# Altium footprint library SOP.PcbLib: 6 footprints
Each footprint in its own frame and in the unit in brackets; x right, y up, seen from the top. Pads: shape width x height; smd on the part's side, far side on the other; paste and mask are expansions set on the pad; w line width, h text height; cw(c..) or ccw(c..) is an arc to the next point about the centre after c.
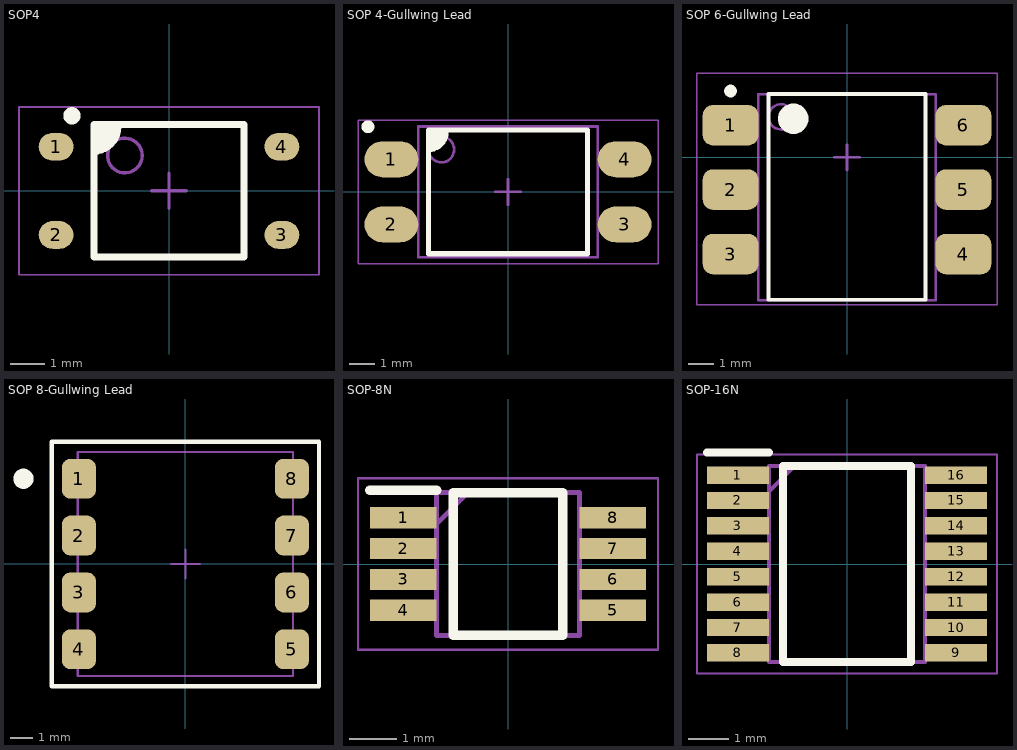
[diagram p0: the footprints below, top view; thin cyan lines are the x and y axes]

## SOP4 [mm] "SOP, 4-Leads, Body 3.85x4.4mm, Pitch 2.54mm, IPC Medium Density"
height 2.1
pads (4):
  oval 1x0.8 smd: 1(-3.25,1.27) 2(-3.25,-1.27) 3(3.25,-1.27) 4(3.25,1.27)
Top Overlay:
  circle w0.25: c-2.794,2.159 r0.125
  region: -2.159,1.905 -1.472,1.905 -1.472,1.524 -1.853,1.143 -2.159,1.143
  lines w0.2: -2.159,1.143 ccw(c-2.159,1.83) -1.472,1.83 ; -2.159,-1.905 -2.159,1.905 2.159,1.905 2.159,-1.905 -2.159,-1.905
Mechanical 13:
  circle w0.1: c-1.27,1.016 r0.5
  lines w0.1: -2.159,-1.905 -2.159,1.905 2.159,1.905 2.159,-1.905 -2.159,-1.905
Mechanical 15:
  lines w0.05: -4.318,-2.413 -4.318,2.413 4.318,2.413 4.318,-2.413 -4.318,-2.413
  lines w0.1: -0.5,0 0.5,0 ; 0,-0.5 0,0.5
3D body "LTV-357T.STEP": height 2.1, standoff 0, extent -3.514,-1.925 3.514,1.925

## SOP 4-Gullwing Lead [mm] "SOP, 4-Leads, Body 4.60x6.50mm, Pitch 2.54mm, IPC Medium Density"
height 4.35
pads (4):
  oval 2.1x1.4 smd: 1(-4.55,1.27) 2(-4.55,-1.27) 3(4.55,-1.27) 4(4.55,1.27)
Top Overlay:
  circle w0.25: c-5.461,2.54 r0.125
  region: -3.1,2.413 -2.413,2.413 -2.413,2.032 -2.794,1.651 -3.1,1.651
  lines w0.2: -3.1,1.651 ccw(c-3.1,2.338) -2.413,2.338 ; -3.1,-2.413 3.1,-2.413 3.1,2.413 -3.1,2.413 -3.1,-2.413
Mechanical 13:
  circle w0.1: c-2.6,1.65 r0.5
  lines w0.1: -3.5,-2.55 3.5,-2.55 3.5,2.55 -3.5,2.55 -3.5,-2.55
Mechanical 15:
  lines w0.05: -5.85,-2.8 5.85,-2.8 5.85,2.8 -5.85,2.8 -5.85,-2.8
  lines w0.1: -0.5,0 0.5,0 ; 0,-0.5 0,0.5
3D body "LTV-817S.STEP": height 3.85, standoff 0, extent -5.098,-2.3 5.098,2.3

## SOP 6-Gullwing Lead [mm] "SOP, 4-Leads, Body 4/65x6/75mm, Pitch 2/54mm, IPC Medium Density designer:abbas basereh"
height 3.5
pads (6):
  rrect50% 2.2x1.6 smd mask+0.06: 1(-4.6,1.27) 2(-4.6,-1.27) 3(-4.6,-3.82) 4(4.6,-3.82) 5(4.6,-1.27) 6(4.6,1.27)
Top Overlay:
  circle w0.25: c-4.6,2.62 r0.125
  circle w0.6: c-2.125,1.525 r0.3
  lines w0.15: -3.1,-5.625 -3.1,2.5 3.1,2.5 3.1,-5.625 -3.1,-5.625
Mechanical 13:
  circle w0.1: c-2.6,1.6 r0.5
  lines w0.1: -3.5,-5.65 -3.5,2.5 3.5,2.5 3.5,-5.65 -3.5,-5.65
Mechanical 15:
  lines w0.05: -5.925,-5.825 -5.925,3.325 5.925,3.325 5.925,-5.825 -5.925,-5.825
  lines w0.1: -0.5,0 0.5,0 ; 0,-0.5 0,0.5
3D body "User Library-MOC8050SR2M.STEP": height 5.08, standoff -0.04, extent -5.225,-5.665 4.679,3.225

## SOP 8-Gullwing Lead [mm] "SOP, 4-Leads, Body 4/65x6/75mm, Pitch 2/54mm, IPC Medium Density designer:abbas basereh"
height 3.5
pads (8):
  rrect50% 1.52x1.78 smd mask+0.06: 1(-4.76,3.81) 2(-4.76,1.27) 3(-4.76,-1.27) 4(-4.76,-3.81) 5(4.76,-3.81) 6(4.76,-1.27) 7(4.76,1.27) 8(4.76,3.81)
Top Overlay:
  circle w0.5: c-7.239,3.81 r0.2
  lines w0.2: -5.969,-5.461 5.969,-5.461 5.969,5.461 -5.969,5.461 -5.969,-5.461
Mechanical 1:
  lines w0.1: -4.81,-5 -4.81,5 4.81,5 4.81,-5 -4.81,-5
Mechanical 15:
  lines w0.1: -0.635,0 0.635,0 ; 0,-0.635 0,0.635 ; -5.969,-5.461 -5.969,5.461 5.969,5.461 5.969,-5.461 -5.969,-5.461
3D body "User Library-SOP8-SOP-8-SOP8W-SOP8L.STEP": height 4, standoff 0, extent -4.81,-5 4.81,5

## SOP-8N [mm]
pads (8):
  rect 1.4x0.45 smd: 1(-2.2,0.975) 2(-2.2,0.325) 3(-2.2,-0.325) 4(-2.2,-0.975) 5(2.2,-0.975) 6(2.2,-0.325) 7(2.2,0.325) 8(2.2,0.975)
Top Overlay:
  lines w0.2: -2.9,1.55 -1.5,1.55 ; -1.15,-1.5 -1.15,1.5 1.15,1.5 1.15,-1.5 -1.15,-1.5
Mechanical 13:
  lines w0.1: -1.5,0.85 -0.85,1.5 ; -1.5,-1.5 -1.5,1.5 1.5,1.5 1.5,-1.5 -1.5,-1.5
Mechanical 15:
  lines w0.05: -3.15,-1.8 -3.15,1.8 3.15,1.8 3.15,-1.8 -3.15,-1.8
3D body "INA170EA_2K5.stp": height 1.1, standoff 0, extent -2.45,-1.5 2.45,1.5

## SOP-16N [mm]
pads (16):
  rect 1.55x0.435 smd: 1(-2.725,2.222) 2(-2.725,1.588) 3(-2.725,0.952) 4(-2.725,0.318) 5(-2.725,-0.318) 6(-2.725,-0.952) 7(-2.725,-1.588) 8(-2.725,-2.222) 9(2.725,-2.222) 10(2.725,-1.588) 11(2.725,-0.952) 12(2.725,-0.318) 13(2.725,0.318) 14(2.725,0.952) 15(2.725,1.588) 16(2.725,2.222)
Top Overlay:
  lines w0.2: -3.5,2.79 -1.95,2.79 ; -1.6,-2.445 -1.6,2.445 1.6,2.445 1.6,-2.445 -1.6,-2.445
Mechanical 15:
  lines w0.1: -1.95,1.81 -1.315,2.445 ; -1.95,-2.445 -1.95,2.445 1.95,2.445 1.95,-2.445 -1.95,-2.445
Mechanical 20:
  lines w0.05: -3.75,-2.74 -3.75,2.74 3.75,2.74 3.75,-2.74 -3.75,-2.74
3D body "MAX14850AEE+T.stp": height 5.8, standoff -4.65, extent -10,-3.376 10,3.376